# EAGLE library part 74HC4049N,652 (library NXP_By_element14_Batch_1)
Hex inverting HIGH-to-LOW level shifter
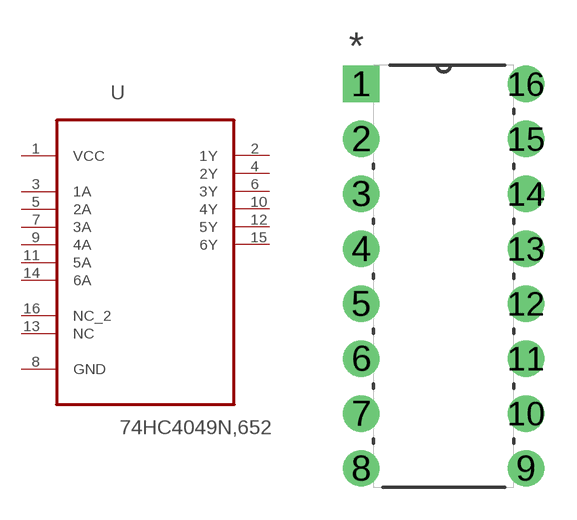
[diagram p95: symbol with the pads of DIP254P762X420-16; footprint DIP254P762X420-16]

Designator prefix U

## 74HC4049N,652 (MPN: 74HC4049N,652; OC_FARNELL: -; OC_NEWARK: 71R2495; PACKAGE: DIP-16; SUPPLIER: NXP)  [DIP254P762X420-16]
1  VCC  pwr
2  1Y  out
3  1A  in
4  2Y  out
5  2A  in
6  3Y  out
7  3A  in
8  GND  pas
9  4A  in
10  4Y  out
11  5A  in
12  5Y  out
13  NC  nc
14  6A  in
15  6Y  out
16  NC_2  nc

## Footprint DIP254P762X420-16 (pad centres in mm)
drill 1.118 square: 1 -7.62,17.78
drill 1.118: 2 -7.62,15.24; 3 -7.62,12.7; 4 -7.62,10.16; 5 -7.62,7.62; 6 -7.62,5.08; 7 -7.62,2.54; 8 -7.62,0; 9 0,0; 10 0,2.54; 11 0,5.08; 12 0,7.62; 13 0,10.16; 14 0,12.7; 15 0,15.24; 16 0,17.78